# Altium integrated library 805_24P.IntLib: 1 symbol
Pins are listed as number, name and electrical type; pins without a type are passive.

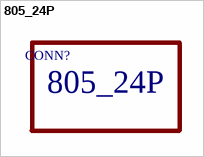
[diagram p0: symbol 805_24P]

## 805_24P
designator CONN?
footprint 805_24P